# Altium footprint library Inductors.PcbLib: 10 footprints
Each footprint in its own frame and in the unit in brackets; x right, y up, seen from the top. Pads: shape width x height; smd on the part's side, far side on the other; paste and mask are expansions set on the pad; w line width, h text height; cw(c..) or ccw(c..) is an arc to the next point about the centre after c.
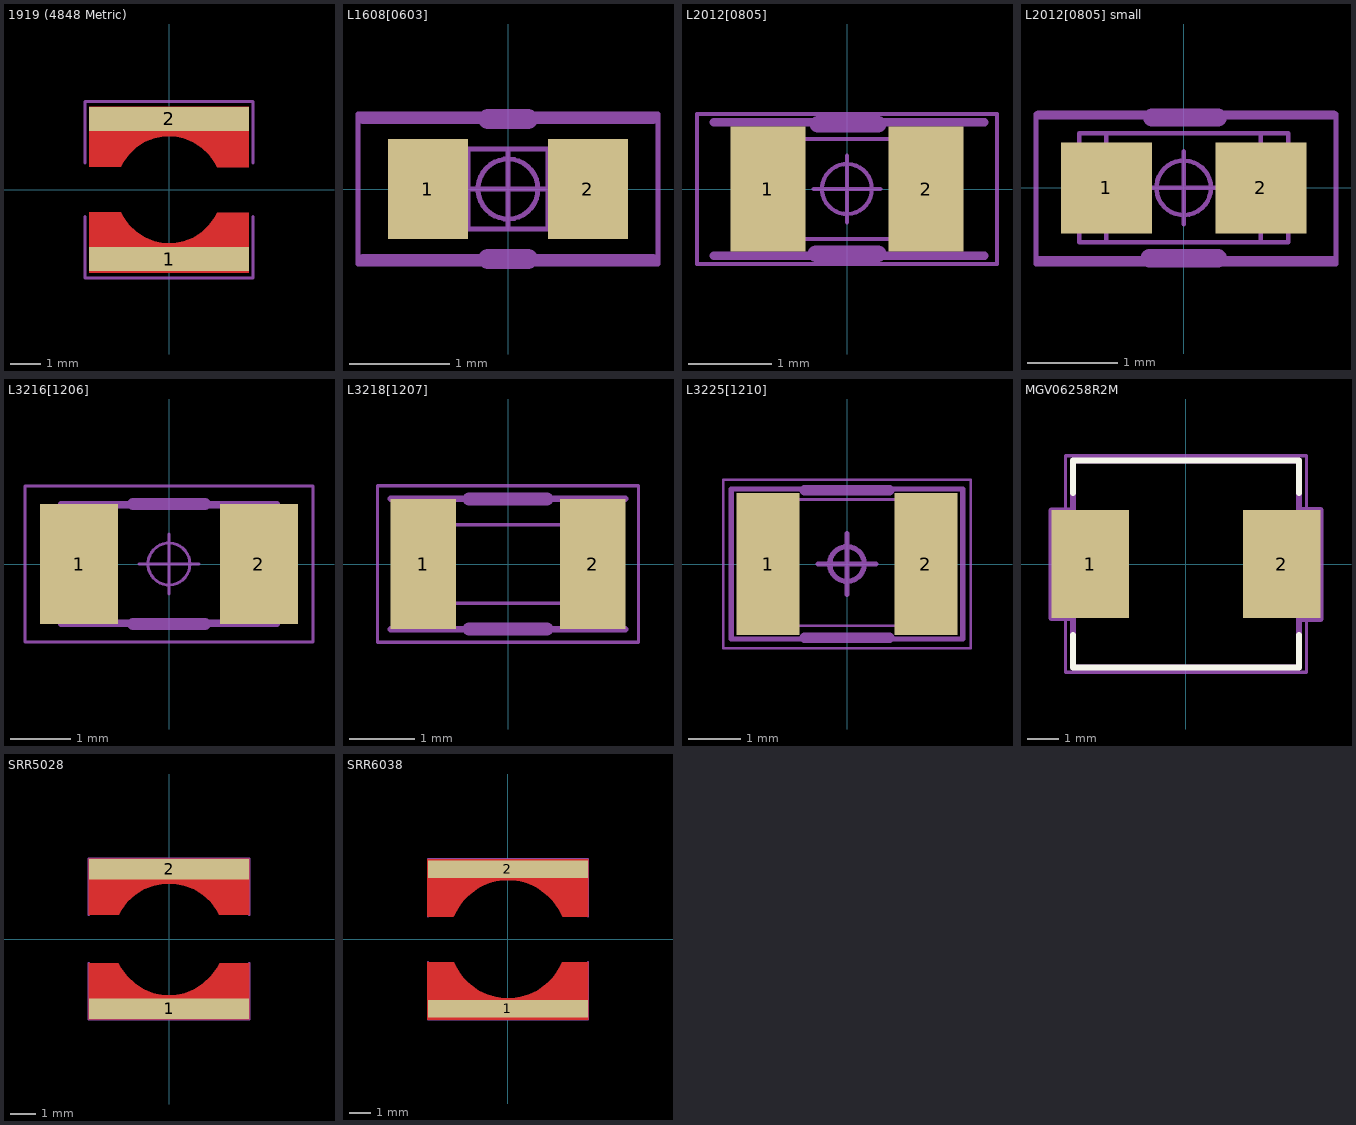
[diagram p0: the footprints below, top view; thin cyan lines are the x and y axes]

## 1919 (4848 Metric) [mm] "Bourns Inductor Footprint"
pads (2):
  rect 5.3x0.8 smd mask+0.102: 1(0,-2.3)
  rect 5.3x0.8 smd mask+0.051: 2(0,2.35)
Top Layer:
  region: -2.65,-2.75 -2.65,-0.75 -1.6,-0.75 -1.523,-0.898 -1.329,-1.169 -1.087,-1.398 -0.807,-1.578 -0.497,-1.703 -0.17,-1.766 0.163,-1.767 0.491,-1.706 0.801,-1.584 1.083,-1.406 1.326,-1.178 1.522,-0.908 1.6,-0.761 2.639,-0.761 2.65,-0.771 2.65,-2.75
  region: 2.65,2.75 2.65,0.75 1.6,0.75 1.523,0.898 1.329,1.169 1.087,1.398 0.807,1.579 0.497,1.703 0.17,1.766 -0.163,1.767 -0.491,1.706 -0.801,1.584 -1.083,1.406 -1.326,1.178 -1.522,0.908 -1.6,0.761 -2.639,0.761 -2.65,0.771 -2.65,2.75
Mechanical 7:
  lines w0.1: -2.794,-0.889 -2.794,-2.921 2.794,-2.921 2.794,-0.889 ; -2.794,0.889 -2.794,2.921 2.794,2.921 2.794,0.889
  text ".Designator" at -1.499,-0.381 h1.5
3D body: height 3, standoff 0, extent -2.4,-2.4 2.4,2.4

## L1608[0603] [mm]
height 0.8
pads (2):
  rect 0.8x1 smd: 1(-0.8,0) 2(0.8,0)
Mechanical 2:
  lines w0.05: -0.4,-0.4 -0.4,0.4 ; 0.4,-0.4 0.4,0.4 ; -0.8,-0.4 0.8,-0.4 0.8,0.4 -0.8,0.4 -0.8,0 -0.8,-0.4
Mechanical 4:
  circle w0.05: c0,0 r0.3
  lines w0.05: -0.4,0 0.4,0 ; 0,-0.4 0,0.4 ; -1.5,-0.75 1.5,-0.75 1.5,0.75 -1.5,0.75 -1.5,-0.75
Mechanical 7:
  lines w0.1: -1.45,-0.7 1.45,-0.7 ; -1.45,0.7 1.45,0.7
  text ".Designator" at -1.6,-0.6 h1.8
Mechanical 13:
  lines w0.2: -0.2,-0.7 0.2,-0.7 ; -0.2,0.7 0.2,0.7
3D body "L1608[0603].STEP": height 0.8, standoff 0, extent -0.8,-0.4 0.8,0.4

## L2012[0805] [mm]
pads (2):
  rect 0.9x1.5 smd: 1(-0.95,0) 2(0.95,0)
Mechanical 2:
  lines w0.05: -0.85,-0.6 -0.85,0.6 ; 0.85,-0.6 0.85,0.6 ; -1.15,-0.6 -1.15,0.6 1.15,0.6 1.15,-0.6 -1.15,-0.6
Mechanical 4:
  circle w0.05: c0,0 r0.3
  lines w0.05: -0.4,0 0.4,0 ; 0,-0.4 0,0.4 ; -1.8,-0.9 -1.8,0.9 1.8,0.9 1.8,-0.9 -1.8,-0.9
Mechanical 7:
  lines w0.1: -1.6,-0.8 1.65,-0.8 ; -1.6,0.8 1.65,0.8
  text ".Designator" at -1.55,-0.45 h1.8
Mechanical 13:
  lines w0.2: -0.375,-0.775 0.375,-0.775 ; -0.35,0.775 0.375,0.775
3D body "L2012[0805].STEP": height 0.9, standoff 0, extent -1.1,-0.7 1.1,0.7

## L2012[0805] small [mm]
pads (2):
  rect 1x1 smd: 1(-0.85,0) 2(0.85,0)
Mechanical 2:
  lines w0.05: -0.85,-0.6 -0.85,0.6 ; 0.85,-0.6 0.85,0.6 ; -1.15,-0.6 -1.15,0.6 1.15,0.6 1.15,-0.6 -1.15,-0.6
Mechanical 4:
  circle w0.05: c0,0 r0.3
  lines w0.05: -0.4,0 0.4,0 ; 0,-0.4 0,0.4 ; -1.626,-0.838 -1.626,0.813 1.676,0.813 1.676,-0.838 -1.626,-0.838
Mechanical 7:
  lines w0.1: -1.6,-0.8 1.65,-0.8 ; -1.6,0.8 1.65,0.8
  text ".Designator" at -1.55,-0.45 h1.8
Mechanical 13:
  lines w0.2: -0.375,-0.775 0.375,-0.775 ; -0.35,0.775 0.375,0.775
3D body "L2012[0805].STEP": height 0.9, standoff 0, extent -1.1,-0.7 1.1,0.7

## L3216[1206] [mm]
pads (2):
  rect 1.3x2 smd: 1(-1.5,0) 2(1.5,0)
Mechanical 2:
  lines w0.05: -1.25,-0.95 -1.25,0.95 ; 1.25,-0.95 1.25,0.95 ; -1.75,-0.95 1.75,-0.95 1.75,0.95 -1.75,0.95 -1.75,-0.95
Mechanical 4:
  circle w0.05: c0,0 r0.35
  lines w0.05: -0.5,0 0.5,0 ; 0,-0.5 0,0.5 ; -2.4,-1.3 2.4,-1.3 2.4,1.3 -2.4,1.3 -2.4,-1.3
Mechanical 7:
  lines w0.1: -1.8,-1 1.8,-1 ; -1.8,1 1.8,1
  text ".Designator" at -1.7,-0.3 h1.8
Mechanical 9:
  lines w0.2: -0.6,-1 0.6,-1 ; -0.6,1 0.6,1
3D body "L3216[1206].STEP": height 1.8, standoff 0, extent -1.6,-0.9 1.6,0.9

## L3218[1207] [mm]
pads (2):
  rect 1x2 smd: 1(-1.3,0) 2(1.3,0)
Mechanical 2:
  lines w0.05: -1.2,-0.6 -1.2,0.6 ; 1.2,-0.6 1.2,0.6 ; -1.55,-0.6 -1.55,0.6 1.55,0.6 1.55,-0.6 -1.55,-0.6
Mechanical 4:
  lines w0.05: -2,-1.2 -2,1.2 2,1.2 2,-1.2 -2,-1.2
Mechanical 7:
  lines w0.1: -1.8,-1 1.8,-1 ; -1.8,1 1.8,1
  text ".Designator" at -2.3,-0.4 h0.9
Mechanical 9:
  lines w0.2: -0.6,-1 0.6,-1 ; -0.6,1 0.6,1
3D body "L3218[1207].STEP": height 1.8, standoff 0, extent -1.6,-0.9 1.6,0.9

## L3225[1210] [mm]
height 2.5
pads (2):
  rect 1.2x2.7 smd: 1(-1.5,0) 2(1.5,0)
Mechanical 2:
  lines w0.05: -1.1,-1.175 1.1,-1.175 ; -1.1,1.225 1.1,1.225 ; -1.7,-1.25 -1.7,1.3 -1.1,1.3 -1.1,-1.25 -1.7,-1.25 ; 1.1,-1.25 1.1,1.3 1.7,1.3 1.7,-1.25 1.1,-1.25
Mechanical 4:
  circle w0.1: c0,0 r0.329
  lines w0.05: -2.35,-1.6 2.35,-1.6 2.35,1.6 -2.35,1.6 -2.35,-1.6
  lines w0.1: -0.55,0 0.55,0 ; 0,-0.575 0,0.575
Mechanical 7:
  lines w0.1: -2.2,-1.425 2.2,-1.425 2.2,1.425 -2.2,1.425 -2.2,-1.425
  text ".Designator" at -1.575,-0.725 h2.2
Mechanical 13:
  lines w0.2: -0.8,-1.4 0.8,-1.4 ; -0.8,1.4 0.8,1.4
3D body "C3225[1210].STEP": height 2.5, standoff 0, extent -1.7,-1.25 1.7,1.25

## MGV06258R2M [mm] "8.2uH Shielded Inductor"
pads (2):
  rect 2.5x3.5 smd: 1(-3.1,0) 2(3.1,0)
Top Overlay:
  lines w0.2: -3.65,-3.35 3.65,-3.35 ; -3.65,-3.35 -3.65,-2.3 -3.65,-3.35 ; -3.65,-3.35 3.65,-3.35 ; -3.65,3.35 3.65,3.35 ; -3.65,3.35 -3.65,2.3 -3.65,3.35 ; -3.65,3.35 3.65,3.35 ; 3.65,-3.35 3.65,-2.3 3.65,-3.35 ; 3.65,3.35 3.65,2.3 3.65,3.35
Mechanical 2:
  lines w0.2: -3.65,-1.75 -4.35,-1.75 -4.35,1.725 -3.65,1.725 ; 3.65,-1.775 4.35,-1.775 4.35,1.75 3.65,1.75 ; -3.65,-3.35 3.65,-3.35 3.65,-2.3 3.65,3.35 -3.65,3.35 -3.65,-2.3 -3.65,-3.35
Mechanical 4:
  lines w0.1: -3.9,-3.5 3.9,-3.5 3.9,3.5 -3.9,3.5 -3.9,-3.5
Mechanical 7:
  lines w0.2: -3.65,-1.75 -4.35,-1.75 -4.35,1.725 -3.65,1.725 ; 3.65,-1.775 4.35,-1.775 4.35,1.75 3.65,1.75 ; -3.65,-3.35 -3.65,-2.3 -3.65,3.35 3.65,3.35 3.65,-2.3 3.65,-3.35 -3.65,-3.35
3D body: height 2.5, standoff 0, extent -3.75,-3.3 3.55,3.4

## SRR5028 [mm]
pads (2):
  rect 6.3x0.8 smd paste-5 mask+0: 1(0,-2.75) 2(0,2.75)
Top Layer:
  region: -3.15,-3.15 3.15,-3.15 3.15,-0.95 2,-0.95 1.992,-0.946 1.895,-1.13 1.652,-1.466 1.35,-1.75 1,-1.972 0.615,-2.125 0.207,-2.203 -0.207,-2.203 -0.615,-2.125 -1,-1.972 -1.35,-1.75 -1.652,-1.466 -1.895,-1.13 -1.992,-0.946 -2,-0.95 -3.15,-0.95
  region: -3.15,0.95 -1.975,0.95 -1.978,0.951 -1.879,1.131 -1.635,1.459 -1.335,1.737 -0.988,1.953 -0.607,2.102 -0.205,2.178 0.205,2.178 0.607,2.102 0.988,1.953 1.335,1.737 1.635,1.459 1.879,1.131 1.978,0.951 1.975,0.95 3.15,0.95 3.15,3.15 -3.15,3.15
Mechanical 7:
  lines w0.1: -3.15,-0.95 -3.15,-3.15 3.15,-3.15 3.15,-0.95 ; -3.15,0.95 -3.15,3.15 3.15,3.15 3.15,0.95
  text ".Designator" at -1.25,-0.412 h1.5
3D body "srr5028.stp": height 2.7, standoff -0.1, extent -2.9,-2.9 2.9,2.9

## SRR6038 [mm]
pads (2):
  rect 7.3x0.8 smd mask+0.102: 1(0,-3.187)
  rect 7.3x0.8 smd mask+0.051: 2(0,3.188)
Top Layer:
  region: -3.646,1.033 -2.489,1.033 -2.406,1.213 -2.201,1.551 -1.949,1.856 -1.655,2.121 -1.325,2.34 -0.967,2.508 -0.588,2.623 -0.197,2.68 0.199,2.68 0.591,2.622 0.969,2.507 1.327,2.339 1.657,2.119 1.951,1.854 2.203,1.549 2.407,1.21 2.49,1.031 3.643,1.031 3.65,1.038 3.65,3.638 -3.65,3.638
  region: -3.655,-3.662 -3.655,-1.062 -3.655,-1.061 -3.655,-1.059 -3.653,-1.058 -3.651,-1.057 -3.65,-1.057 -2.495,-1.057 -2.494,-1.055 -2.492,-1.053 -2.488,-1.052 -2.485,-1.054 -2.484,-1.056 -2.401,-1.235 -2.197,-1.573 -1.945,-1.877 -1.652,-2.141 -1.323,-2.36 -0.966,-2.528 -0.588,-2.642 -0.197,-2.7 0.197,-2.7 0.588,-2.642 0.966,-2.528 1.323,-2.36 1.652,-2.141 1.945,-1.877 2.197,-1.573 2.401,-1.235 2.484,-1.056 2.485,-1.055 2.486,-1.054 2.487,-1.053 2.489,-1.053 3.646,-1.053 3.648,-1.053 3.65,-1.055 3.651,-1.056 3.651,-1.057 3.652,-1.057 3.653,-1.058 3.655,-1.06 3.655,-1.062 3.655,-3.662 3.655,-3.664 3.655,-3.666 3.653,-3.667 3.651,-3.668 3.65,-3.668 -3.65,-3.668 -3.651,-3.668 -3.653,-3.667 -3.655,-3.666 -3.655,-3.664
  lines w0.01: -3.65,1.038 -3.65,3.638 3.65,3.638 3.65,1.038 ; -3.646,1.033 -2.489,1.033 cw(c0,-0.012) 2.49,1.031 3.643,1.031 ; -2.507,-1.062 -3.65,-1.062 ; -2.492,-1.062 -3.65,-1.062 ; -2.489,-1.058 ccw(c0,-0.012) 2.489,-1.058 3.646,-1.058 ; 3.65,-1.062 3.65,-3.662 -3.65,-3.662 -3.65,-1.062
Mechanical 7:
  lines w0.1: -3.65,-1.062 -3.65,-3.662 3.65,-3.662 3.65,-1.062 ; -3.65,1.038 -3.65,3.638 3.65,3.638 3.65,1.038
  text ".Designator" at -1.325,-0.412 h1.5
3D body "srr6038.stp": height 3.7, standoff -0.1, extent -3.4,-3.4 3.4,3.4